# Altium footprint library PcbLib.PcbLib: 1 footprints
Each footprint in its own frame and in the unit in brackets; x right, y up, seen from the top. Pads: shape width x height; smd on the part's side, far side on the other; paste and mask are expansions set on the pad; w line width, h text height; cw(c..) or ccw(c..) is an arc to the next point about the centre after c.
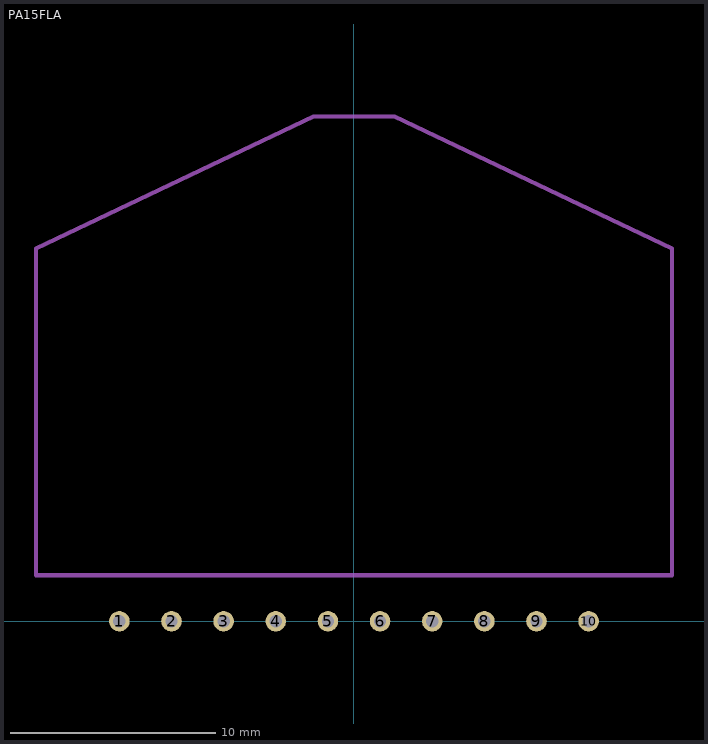
[diagram p0: the footprint, top view; thin cyan lines are the x and y axes]

## PA15FLA [mm]
height 6.86
pads (10):
  round 1 hole 0.6: 1(-11.43,0) 2(-8.89,0) 3(-6.35,0) 4(-3.81,0) 5(-1.27,0) 6(1.27,0) 7(3.81,0) 8(6.35,0) 9(8.89,0) 10(11.43,0)
Mechanical 1:
  lines w0.2: 15.5,2.24 15.5,18.16 1.976,24.59 -1.984,24.59 -15.5,18.16 -15.5,2.24 15.493,2.24 15.5,2.247
3D body: height 6.86, standoff 0, extent -15.5,2.24 15.5,24.59